# Altium footprint library TI_LDO_3V3_SOT325.PcbLib: 3 footprints
Each footprint in its own frame and in the unit in brackets; x right, y up, seen from the top. Pads: shape width x height; smd on the part's side, far side on the other; paste and mask are expansions set on the pad; w line width, h text height; cw(c..) or ccw(c..) is an arc to the next point about the centre after c.
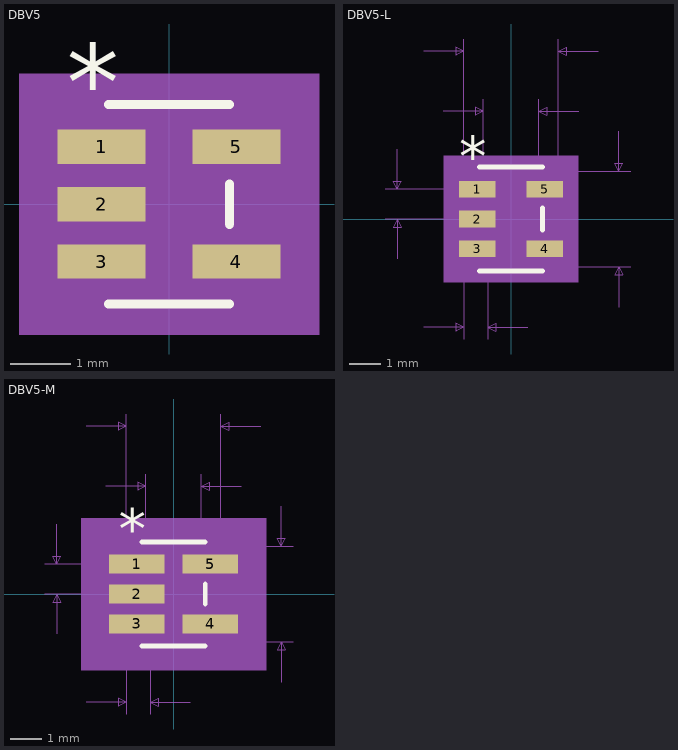
[diagram p0: the footprints below, top view; thin cyan lines are the x and y axes]

## DBV5 [mil]
pads (5):
  rect 57.56x22.36 smd paste+0 mask+0: 1(-44,37.4) 2(-44,0) 3(-44,-37.4) 4(44,-37.4) 5(44,37.4)
Top Overlay:
  lines w6: -39.5,-65 39.5,-65 ; -39.5,65 39.5,65 ; 39.5,-13.12 39.5,13.12
  text "*" at -66.5,54.76 h50
Mechanical 5:
  region: 97.78,-85 -97.78,-85 -97.78,85 97.78,85
Mechanical 13:
  lines w0: -12,60 ccw(c0,60) 12,60
  lines w1: -59,-47.4 -34.5,-47.4 -34.5,-27.4 -59,-27.4 -59,-47.4 ; -59,-10 -34.5,-10 -34.5,10 -59,10 -59,-10 ; -59,27.4 -34.5,27.4 -34.5,47.4 -59,47.4 -59,27.4 ; -34.5,-60 -34.5,60 34.5,60 34.5,-60 -34.5,-60 ; 34.5,-47.4 59,-47.4 59,-27.4 34.5,-27.4 34.5,-47.4 ; 34.5,27.4 59,27.4 59,47.4 34.5,47.4 34.5,27.4
  text "*" at -37,16.76 h50
Mechanical 15:
  region: 44.5,-70 -44.5,-70 -44.5,-58.58 -82.78,-58.58 -82.78,58.58 -44.5,58.58 -44.5,70 44.5,70 44.5,58.58 82.78,58.58 82.78,-58.58 44.5,-58.58
  lines w6: -82.78,-58.58 -82.78,58.58 -44.5,58.58 -44.5,70 44.5,70 44.5,58.58 82.78,58.58 82.78,-58.58 44.5,-58.58 44.5,-70 -44.5,-70 -44.5,-58.58 -82.78,-58.58
3D body: height 10, standoff 0, extent 0,0 10,10

## DBV5-L [mm]
pads (5):
  rect 1.162x0.528 smd paste+0 mask+0: 1(-1.068,0.95) 2(-1.068,0) 3(-1.068,-0.95) 4(1.068,-0.95) 5(1.068,0.95)
Top Overlay:
  lines w0.152: -1.003,-1.651 1.003,-1.651 ; -1.003,1.651 1.003,1.651 ; 1.003,-0.353 1.003,0.353
  text "*" at -1.639,1.351 h1.27
Mechanical 5:
  region: 2.131,-2.007 -2.131,-2.007 -2.131,2.007 2.131,2.007
Mechanical 7:
  lines w0.025: -3.989,0 -1.068,0 ; -3.989,0.95 -1.068,0.95 ; -3.608,-1.27 -3.608,0 ; -3.608,2.22 -3.608,0.95 ; -2.769,-3.429 -1.499,-3.429 ; -2.769,5.334 -1.499,5.334 ; -2.146,3.429 -0.876,3.429 ; -1.499,-3.81 -1.499,0 -1.499,5.715 ; -0.876,0 -0.876,3.81 ; -0.737,-3.81 -0.737,0 ; 0,-1.524 3.797,-1.524 ; 0,1.524 3.797,1.524 ; 0.533,-3.429 -0.737,-3.429 ; 0.876,0 0.876,3.81 ; 1.499,0 1.499,5.715 ; 2.146,3.429 0.876,3.429 ; 2.769,5.334 1.499,5.334 ; 3.416,-2.794 3.416,-1.524 ; 3.416,2.794 3.416,1.524 ; -3.608,0 -3.735,-0.254 -3.481,-0.254 -3.608,0 ; -3.608,0.95 -3.735,1.204 -3.481,1.204 -3.608,0.95 ; -1.499,-3.429 -1.753,-3.302 -1.753,-3.556 -1.499,-3.429 ; -1.499,5.334 -1.753,5.461 -1.753,5.207 -1.499,5.334 ; -0.876,3.429 -1.13,3.556 -1.13,3.302 -0.876,3.429 ; -0.737,-3.429 -0.483,-3.302 -0.483,-3.556 -0.737,-3.429 ; 0.876,3.429 1.13,3.556 1.13,3.302 0.876,3.429 ; 1.499,5.334 1.753,5.461 1.753,5.207 1.499,5.334 ; 3.416,-1.524 3.289,-1.778 3.543,-1.778 3.416,-1.524 ; 3.416,1.524 3.289,1.778 3.543,1.778 3.416,1.524
  text "Default Padstyle: r116_53" at -7.938,-6.604 h1.27
  text "Pin 1 Padstyle: r116_53" at -7.302,-8.128 h1.27
  text "Alt 1 Padstyle: b152_229h76" at -8.572,-12.7 h1.27
  text "Alt 2 Padstyle: b229_152h76" at -8.572,-14.224 h1.27
  text "0.069in/1.753mm" at -2.381,3.937 h0.64
  text "0.118in/2.997mm" at -2.381,5.842 h0.64
  text "0.12in/3.048mm" at 3.924,-0.318 h0.64
  text "0.037in/0.95mm" at -8.561,0.158 h0.64
  text "0.022in/0.559mm" at -3.499,-4.572 h0.64
Mechanical 13:
  lines w0: -0.305,1.524 ccw(c0,1.524) 0.305,1.524
  lines w0.025: -1.499,-1.204 -1.499,-0.696 -0.876,-0.696 -0.876,-1.204 -1.499,-1.204 ; -1.499,-0.254 -1.499,0.254 -0.876,0.254 -0.876,-0.254 -1.499,-0.254 ; -1.499,0.696 -1.499,1.204 -0.876,1.204 -0.876,0.696 -1.499,0.696 ; -0.876,-1.524 0.876,-1.524 0.876,1.524 -0.876,1.524 -0.876,-1.524 ; 0.876,-1.204 0.876,-0.696 1.499,-0.696 1.499,-1.204 0.876,-1.204 ; 0.876,0.696 0.876,1.204 1.499,1.204 1.499,0.696 0.876,0.696
  text "*" at -0.94,0.386 h1.27
Mechanical 15:
  region: 0.978,-1.626 -0.978,-1.626 -0.978,-1.316 -1.75,-1.316 -1.75,1.316 -0.978,1.316 -0.978,1.626 0.978,1.626 0.978,1.316 1.75,1.316 1.75,-1.316 0.978,-1.316
  lines w0.152: -1.75,-1.316 -0.978,-1.316 -0.978,-1.626 0.978,-1.626 0.978,-1.316 1.75,-1.316 1.75,1.316 0.978,1.316 0.978,1.626 -0.978,1.626 -0.978,1.316 -1.75,1.316 -1.75,-1.316
3D body: height 0.25, standoff 0, extent 0,0 0.254,0.254

## DBV5-M [mm]
pads (5):
  rect 1.762x0.608 smd paste+0 mask+0: 1(-1.168,0.95) 2(-1.168,0) 3(-1.168,-0.95) 4(1.168,-0.95) 5(1.168,0.95)
Top Overlay:
  lines w0.152: -1.003,-1.651 1.003,-1.651 ; -1.003,1.651 1.003,1.651 ; 1.003,-0.313 1.003,0.313
  text "*" at -1.739,1.431 h1.27
Mechanical 5:
  region: 2.938,-2.413 -2.938,-2.413 -2.938,2.413 2.938,2.413
Mechanical 7:
  lines w0.025: -4.089,0 -1.168,0 ; -4.089,0.95 -1.168,0.95 ; -3.708,-1.27 -3.708,0 ; -3.708,2.22 -3.708,0.95 ; -2.769,-3.429 -1.499,-3.429 ; -2.769,5.334 -1.499,5.334 ; -2.146,3.429 -0.876,3.429 ; -1.499,-3.81 -1.499,0 -1.499,5.715 ; -0.876,0 -0.876,3.81 ; -0.737,-3.81 -0.737,0 ; 0,-1.524 3.797,-1.524 ; 0,1.524 3.797,1.524 ; 0.533,-3.429 -0.737,-3.429 ; 0.876,0 0.876,3.81 ; 1.499,0 1.499,5.715 ; 2.146,3.429 0.876,3.429 ; 2.769,5.334 1.499,5.334 ; 3.416,-2.794 3.416,-1.524 ; 3.416,2.794 3.416,1.524 ; -3.708,0 -3.835,-0.254 -3.581,-0.254 -3.708,0 ; -3.708,0.95 -3.835,1.204 -3.581,1.204 -3.708,0.95 ; -1.499,-3.429 -1.753,-3.302 -1.753,-3.556 -1.499,-3.429 ; -1.499,5.334 -1.753,5.461 -1.753,5.207 -1.499,5.334 ; -0.876,3.429 -1.13,3.556 -1.13,3.302 -0.876,3.429 ; -0.737,-3.429 -0.483,-3.302 -0.483,-3.556 -0.737,-3.429 ; 0.876,3.429 1.13,3.556 1.13,3.302 0.876,3.429 ; 1.499,5.334 1.753,5.461 1.753,5.207 1.499,5.334 ; 3.416,-1.524 3.289,-1.778 3.543,-1.778 3.416,-1.524 ; 3.416,1.524 3.289,1.778 3.543,1.778 3.416,1.524
  text "Default Padstyle: r176_61" at -7.938,-6.604 h1.27
  text "Pin 1 Padstyle: r176_61" at -7.302,-8.128 h1.27
  text "Alt 1 Padstyle: b152_229h76" at -8.572,-12.7 h1.27
  text "Alt 2 Padstyle: b229_152h76" at -8.572,-14.224 h1.27
  text "0.069in/1.753mm" at -2.381,3.937 h0.64
  text "0.118in/2.997mm" at -2.381,5.842 h0.64
  text "0.12in/3.048mm" at 3.924,-0.318 h0.64
  text "0.037in/0.95mm" at -8.661,0.158 h0.64
  text "0.022in/0.559mm" at -3.499,-4.572 h0.64
Mechanical 13:
  lines w0: -0.305,1.524 ccw(c0,1.524) 0.305,1.524
  lines w0.025: -1.499,-1.204 -1.499,-0.696 -0.876,-0.696 -0.876,-1.204 -1.499,-1.204 ; -1.499,-0.254 -1.499,0.254 -0.876,0.254 -0.876,-0.254 -1.499,-0.254 ; -1.499,0.696 -1.499,1.204 -0.876,1.204 -0.876,0.696 -1.499,0.696 ; -0.876,-1.524 0.876,-1.524 0.876,1.524 -0.876,1.524 -0.876,-1.524 ; 0.876,-1.204 0.876,-0.696 1.499,-0.696 1.499,-1.204 0.876,-1.204 ; 0.876,0.696 0.876,1.204 1.499,1.204 1.499,0.696 0.876,0.696
  text "*" at -0.94,0.466 h1.27
Mechanical 15:
  region: 1.384,-2.032 -1.384,-2.032 -1.384,-1.762 -2.557,-1.762 -2.557,1.762 -1.384,1.762 -1.384,2.032 1.384,2.032 1.384,1.762 2.557,1.762 2.557,-1.762 1.384,-1.762
  lines w0.152: -2.557,-1.762 -1.384,-1.762 -1.384,-2.032 1.384,-2.032 1.384,-1.762 2.557,-1.762 2.557,1.762 1.384,1.762 1.384,2.032 -1.384,2.032 -1.384,1.762 -2.557,1.762 -2.557,-1.762
3D body: height 0.25, standoff 0, extent 0,0 0.254,0.254